# Altium footprint library USBCAN.PcbLib: 18 footprints (part 1 of 2)
Each footprint in its own frame and in the unit in brackets; x right, y up, seen from the top. Pads: shape width x height; smd on the part's side, far side on the other; paste and mask are expansions set on the pad; w line width, h text height; cw(c..) or ccw(c..) is an arc to the next point about the centre after c.
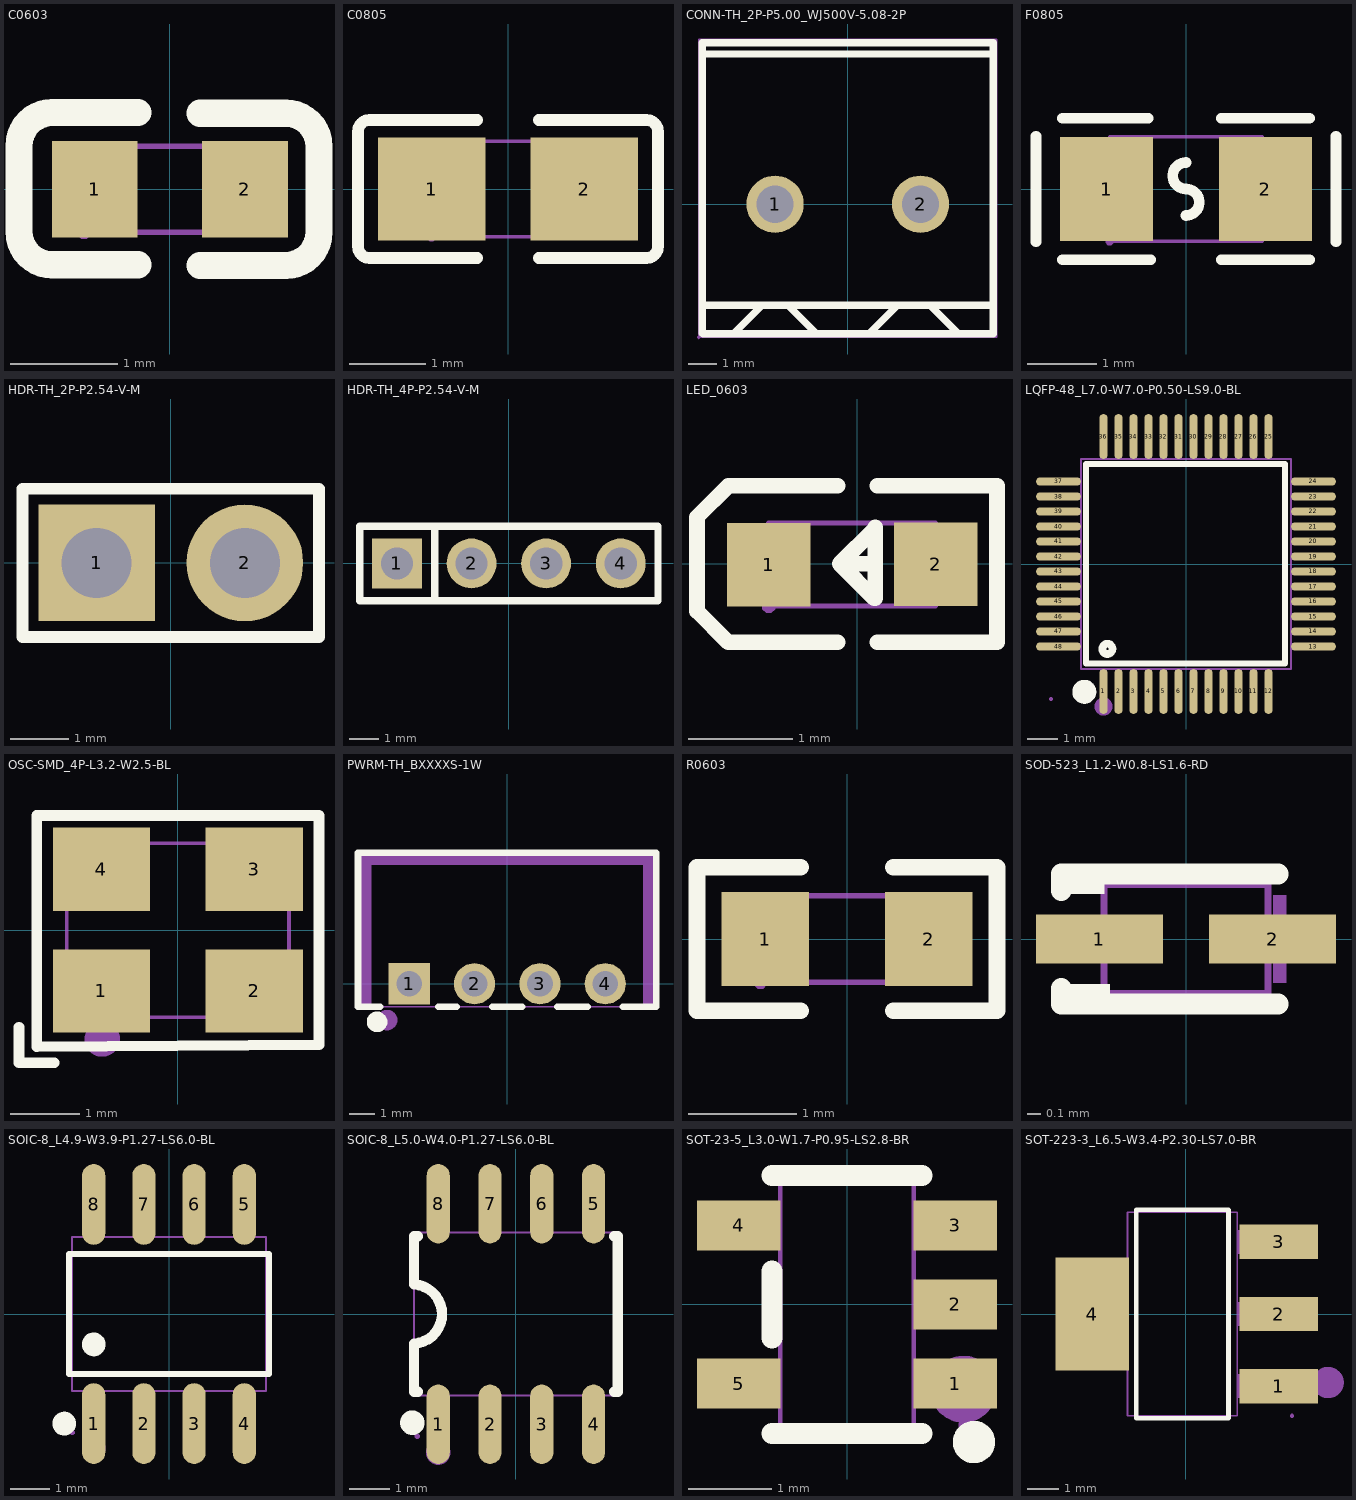
[diagram p0: the footprints below, top view; thin cyan lines are the x and y axes]

## C0603 [mm]
pads (2):
  rect 0.8x0.9 smd: 1(-0.7,0) 2(0.7,0)
Top Overlay:
  lines w0.254: -0.296,-0.704 -1.096,-0.704 cw(c-1.096,-0.394) -1.406,-0.394 -1.405,0.406 cw(c-1.096,0.406) -1.096,0.715 -0.296,0.715 ; 0.28,-0.71 1.08,-0.71 ccw(c1.08,-0.4) 1.39,-0.4 1.39,0.4 ccw(c1.08,0.4) 1.08,0.71 0.28,0.71
Mechanical 15:
  region: -0.8,-0.4 -0.8,0.4 -0.5,0.4 -0.5,-0.4
  region: 0.8,-0.4 0.8,0.4 0.5,0.4 0.5,-0.4
  region: -0.8,-0.46 -0.776,-0.46 -0.741,-0.425 -0.741,-0.376 -0.776,-0.341 -0.8,-0.34 -0.825,-0.341 -0.859,-0.376 -0.859,-0.425 -0.825,-0.46 -0.8,-0.46
  lines w0.051: -0.8,-0.4 -0.8,0.4 0.8,0.4 0.8,-0.4 -0.8,-0.4

## C0805 [mm]
pads (2):
  rect 1.41x1.35 smd paste-100 mask+0.051: 1(-1,0) 2(1,0)
Top Overlay:
  lines w0.152: -0.401,-0.904 -1.811,-0.904 cw(c-1.811,-0.751) -1.964,-0.751 -1.964,0.751 cw(c-1.811,0.751) -1.811,0.904 -0.401,0.904 ; 0.401,-0.904 1.811,-0.904 ccw(c1.811,-0.751) 1.964,-0.751 1.964,0.751 ccw(c1.811,0.751) 1.811,0.904 0.401,0.904
Top Paste:
  region: 0.475,-0.62 0.475,-0.2 0.92,-0.2 0.92,0.25 0.48,0.25 0.475,0.66 0.525,0.71 1.675,0.71 1.725,0.66 1.725,-0.62 1.675,-0.67 0.525,-0.67
  region: -1.675,-0.62 -1.675,0.66 -1.625,0.71 -0.475,0.71 -0.425,0.66 -0.42,0.25 -0.87,0.25 -0.87,-0.2 -0.43,-0.2 -0.425,-0.62 -0.475,-0.67 -1.625,-0.67
Mechanical 15:
  region: -1,-0.565 -1.024,-0.566 -1.059,-0.601 -1.059,-0.65 -1.024,-0.685 -1,-0.685 -0.976,-0.685 -0.941,-0.65 -0.941,-0.601 -0.976,-0.566 -1,-0.565
  region: 1,0.625 1,-0.625 0.5,-0.625 0.5,0.625
  region: -1,-0.625 -1,0.625 -0.5,0.625 -0.5,-0.625
  lines w0.051: -1,-0.625 1,-0.625 1,0.625 -1,0.625 -1,-0.625

## CONN-TH_2P-P5.00_WJ500V-5.08-2P [mm]
pads (2):
  round 2 hole 1.3: 1(-2.54,0) 2(2.54,0)
Top Overlay:
  lines w0.254: -5.08,-4.52 -5.08,5.64 ; -5.065,5.243 5.08,5.243 ; -5.054,-4.522 5.08,-4.522 5.08,5.638 -5.054,5.638 ; -5.036,-3.531 5.08,-3.531 ; -3.97,-4.5 -3.01,-3.54 ; -2.08,-3.54 -1.12,-4.5 ; 0.75,-4.518 1.71,-3.558 ; 2.9,-3.558 3.86,-4.518
Mechanical 15:
  region: -2.54,0.55 -2.649,0.55 -2.852,0.466 -3.006,0.312 -3.09,0.109 -3.09,-0.109 -3.006,-0.312 -2.852,-0.466 -2.65,-0.55 -2.54,-0.55 -2.431,-0.55 -2.228,-0.466 -2.074,-0.312 -1.99,-0.109 -1.99,0.109 -2.074,0.312 -2.228,0.466 -2.431,0.55 -2.54,0.55
  region: 2.54,0.55 2.431,0.55 2.228,0.466 2.074,0.312 1.99,0.109 1.99,-0.109 2.074,-0.312 2.228,-0.466 2.43,-0.55 2.54,-0.55 2.649,-0.55 2.852,-0.466 3.006,-0.312 3.09,-0.109 3.09,0.109 3.006,0.312 2.852,0.466 2.649,0.55 2.54,0.55
  region: -5.207,-4.59 -5.231,-4.59 -5.265,-4.625 -5.265,-4.673 -5.231,-4.708 -5.207,-4.709 -5.183,-4.708 -5.15,-4.674 -5.15,-4.625 -5.183,-4.591 -5.207,-4.59
  lines w0.051: -5.207,-4.649 -5.207,5.767 5.207,5.767 5.207,-4.649 -5.207,-4.649

## F0805 [mm]
pads (2):
  rect 1.335x1.5 smd paste-100 mask+0.051: 1(-1.142,0) 2(1.142,0)
Top Overlay:
  lines w0.152: -2.159,-0.762 -2.159,0.762 ; -1.778,-1.016 -0.508,-1.016 ; -1.778,1.016 -0.545,1.016 ; 0,-0.381 ccw(c0,-0.191) 0,0 cw(c0,0.191) 0,0.381 ; 0.508,-1.016 1.778,-1.016 ; 0.508,1.016 1.778,1.016 ; 2.159,-0.762 2.159,0.762
Top Paste:
  region: 0.475,-0.62 0.475,-0.2 0.92,-0.2 0.92,0.25 0.48,0.25 0.475,0.66 0.525,0.71 1.675,0.71 1.725,0.66 1.725,-0.62 1.675,-0.67 0.525,-0.67
  region: -1.675,-0.62 -1.675,0.66 -1.625,0.71 -0.475,0.71 -0.425,0.66 -0.42,0.25 -0.87,0.25 -0.87,-0.2 -0.43,-0.2 -0.425,-0.62 -0.475,-0.67 -1.625,-0.67
Mechanical 15:
  region: -1.1,-0.81 -1.076,-0.809 -1.043,-0.774 -1.043,-0.726 -1.076,-0.691 -1.1,-0.69 -1.124,-0.691 -1.158,-0.726 -1.158,-0.774 -1.124,-0.809 -1.1,-0.81
  region: 1.1,-0.75 0.9,-0.75 0.9,0.75 1.1,0.75
  region: -1.1,0.75 -0.9,0.75 -0.9,-0.75 -1.1,-0.75
  lines w0.051: -1.1,-0.75 1.1,-0.75 1.1,0.75 -1.1,0.75 -1.1,-0.75

## HDR-TH_2P-P2.54-V-M [mm]
pads (2):
  rect 2x2 hole 1.2: 1(-1.27,0)
  round 2 hole 1.2: 2(1.27,0)
Top Overlay:
  lines w0.203: -2.54,-1.27 -2.54,1.27 -0.635,1.27 2.54,1.27 2.54,-1.27 -2.54,-1.27
Mechanical 15:
  region: -1.59,0.32 -0.95,0.32 -0.95,-0.32 -1.59,-0.32
  region: 0.95,0.32 1.59,0.32 1.59,-0.32 0.95,-0.32
  region: -2.6,-1.25 -2.599,-1.274 -2.564,-1.308 -2.516,-1.308 -2.481,-1.274 -2.48,-1.25 -2.481,-1.226 -2.516,-1.192 -2.564,-1.192 -2.599,-1.226 -2.6,-1.25
  lines w0.051: -2.54,-1.25 2.54,-1.25 2.54,1.25 -2.54,1.25 -2.54,-1.25

## HDR-TH_4P-P2.54-V-M [mm]
pads (4):
  rect 1.7x1.7 hole 1.1: 1(-3.81,0)
  round 1.7 hole 1.1: 2(-1.27,0) 3(1.27,0) 4(3.81,0)
Top Overlay:
  lines w0.254: -2.516,-1.27 -2.516,1.27 ; -2.516,1.27 -5.08,1.27 -5.08,-1.27 5.08,-1.27 5.08,1.27 -2.516,1.27
Mechanical 15:
  region: 3.49,0.32 4.13,0.32 4.13,-0.32 3.49,-0.32
  region: 0.95,0.32 1.59,0.32 1.59,-0.32 0.95,-0.32
  region: -1.59,0.32 -0.95,0.32 -0.95,-0.32 -1.59,-0.32
  region: -4.13,0.32 -3.49,0.32 -3.49,-0.32 -4.13,-0.32
  region: -5.08,-1.31 -5.056,-1.309 -5.022,-1.274 -5.022,-1.226 -5.056,-1.191 -5.08,-1.19 -5.104,-1.191 -5.138,-1.226 -5.138,-1.274 -5.104,-1.309 -5.08,-1.31
  lines w0.051: -5.08,-1.25 5.08,-1.25 5.08,1.25 -5.08,1.25 -5.08,-1.25

## LED_0603 [mil]
pads (2):
  rect 31.5x31.5 smd paste+0 mask+2: 1(-33.5,-0.4) 2(29.5,-0.2)
Top Overlay:
  lines w5.9: -7.5,-29.7 -48.8,-29.7 -60.6,-17.9 -60.6,-13.9 -60.6,13.6 -60.6,17.6 -48.8,29.4 -7.5,29.4 ; 6.7,0 -6.7,0 ; 7.5,-29.6 52.7,-29.6 ; 7.5,29.5 52.7,29.5 52.7,-28.8 ; -6.7,0 6.7,13.3 6.7,13.7 6.7,-13 6.3,-13 -6.7,0
Mechanical 6:
  region: -44.1,2.1 -22.9,2.1 -22.9,-3 -44.1,-3
  region: 26.9,-10.8 26.9,10.4 32,10.4 32,-10.8
  region: 18.8,2.4 40.1,2.4 40.1,-2.7 18.8,-2.7
Mechanical 15:
  region: -33.5,-16.2 -33.5,15.3 -21.7,15.3 -21.7,-16.2
  region: 17.7,-15.9 17.7,15.6 29.5,15.6 29.5,-15.9
  region: -35.9,-16.2 -35.9,-17.19 -34.49,-18.6 -32.51,-18.6 -31.1,-17.19 -31.1,-16.2 -31.1,-15.21 -32.51,-13.8 -34.49,-13.8 -35.9,-15.21 -35.9,-16.2
  lines w2: -33.5,-16 29.5,-16 29.5,15.4 -33.5,15.4 -33.5,-16

## LQFP-48_L7.0-W7.0-P0.50-LS9.0-BL [mm]
pads (48):
  oval 0.27x1.5 smd paste+0 mask+0.05: 1(-2.75,-4.25) 2(-2.25,-4.25) 3(-1.75,-4.25) 4(-1.25,-4.25) 5(-0.75,-4.25) 6(-0.25,-4.25) 7(0.25,-4.25) 8(0.75,-4.25) 9(1.25,-4.25) 10(1.75,-4.25) 11(2.25,-4.25) 12(2.75,-4.25) 25(2.75,4.25) 26(2.25,4.25) 27(1.75,4.25) 28(1.25,4.25) 29(0.75,4.25) 30(0.25,4.25) 31(-0.25,4.25) 32(-0.75,4.25) 33(-1.25,4.25) 34(-1.75,4.25) 35(-2.25,4.25) 36(-2.75,4.25)
  oval 1.5x0.27 smd paste+0 mask+0.05: 13(4.25,-2.75) 14(4.25,-2.25) 15(4.25,-1.75) 16(4.25,-1.25) 17(4.25,-0.75) 18(4.25,-0.25) 19(4.25,0.25) 20(4.25,0.75) 21(4.25,1.25) 22(4.25,1.75) 23(4.25,2.25) 24(4.25,2.75) 37(-4.25,2.75) 38(-4.25,2.25) 39(-4.25,1.75) 40(-4.25,1.25) 41(-4.25,0.75) 42(-4.25,0.25) 43(-4.25,-0.25) 44(-4.25,-0.75) 45(-4.25,-1.25) 46(-4.25,-1.75) 47(-4.25,-2.25) 48(-4.25,-2.75)
Top Overlay:
  circle w0.254: c-2.62,-2.83 r0.17
  lines w0.2: -2.896,3.34 3.302,3.34 3.302,-3.315 -3.327,-3.315 -3.327,3.34 -2.565,3.34
  lines w0.4: -3.39,-4.06 ccw(c-3.389,-4.26) -3.387,-4.06
Mechanical 6:
  circle w0.3: c-2.75,-4.75 r0.15
Mechanical 15:
  drawing of 101 lines, arcs and shapes, not listed

## OSC-SMD_4P-L3.2-W2.5-BL [mm]
pads (4):
  rect 1.4x1.2 smd: 1(-1.1,-0.875) 2(1.1,-0.875) 3(1.1,0.875) 4(-1.1,0.875)
Top Overlay:
  lines w0.152: -2.286,-1.397 -2.286,-1.905 -1.778,-1.905 ; -2.029,-1.679 2.032,-1.651 2.032,0 2.032,1.651 -2.029,1.651 -2.029,-1.679
Mechanical 6:
  circle w0.254: c-1.088,-1.567 r0.127
  region: -1.738,-0.536 -1.702,-0.536 -1.702,-0.608 -1.738,-0.608
  region: -1.702,-0.536 -1.666,-0.536 -1.666,-0.608 -1.702,-0.608
  region: -1.666,-0.5 -1.63,-0.5 -1.63,-0.608 -1.666,-0.608
  region: -1.63,-0.464 -1.594,-0.464 -1.594,-0.572 -1.63,-0.572
  region: -1.594,-0.464 -1.558,-0.464 -1.558,-1.004 -1.594,-1.004
  region: -1.558,-0.428 -1.522,-0.428 -1.522,-1.004 -1.558,-1.004
  region: -1.522,-0.428 -1.486,-0.428 -1.486,-1.004 -1.522,-1.004
  region: -1.486,-0.428 -1.45,-0.428 -1.45,-1.004 -1.486,-1.004
Mechanical 15:
  region: 0.6,-0.449 1.5,-0.449 1.5,-1.249 0.6,-1.249
  region: -1.5,-0.449 -0.6,-0.449 -0.6,-1.249 -1.5,-1.249
  region: -1.5,1.249 -0.6,1.249 -0.6,0.449 -1.5,0.449
  region: 0.6,1.249 1.5,1.249 1.5,0.449 0.6,0.449
  region: -1.54,-1.25 -1.54,-1.225 -1.575,-1.191 -1.624,-1.191 -1.659,-1.225 -1.66,-1.25 -1.659,-1.274 -1.624,-1.309 -1.575,-1.309 -1.54,-1.274 -1.54,-1.25
  lines w0.051: -1.6,-1.25 1.6,-1.25 1.6,1.25 -1.6,1.25 -1.6,-1.25

## PWRM-TH_BXXXXS-1W [mm]
pads (4):
  rect 1.6x1.6 hole 1: 1(-3.81,0)
  round 1.6 hole 1: 2(-1.27,0) 3(1.27,0) 4(3.81,0)
Top Overlay:
  circle w0.4: c-5.06,-1.48 r0.2
  lines w0.254: -4.941,-0.9 -5.8,-0.9 -5.8,5.1 5.8,5.1 5.8,-0.9 4.713,-0.9 ; -2.679,-0.9 -1.954,-0.9 ; -0.587,-0.9 0.586,-0.9 ; -0.367,-0.9 0.367,-0.9 ; 1.953,-0.9 3.126,-0.9 ; 2.173,-0.9 2.907,-0.9 ; 4.493,-0.9 5.116,-0.9
Mechanical 6:
  circle w0.4: c-4.67,-1.41 r0.2
  region: -5.69,-0.77 -5.69,4.98 5.67,4.98 5.67,-0.77 5.29,-0.77 5.29,4.63 -5.28,4.63 -5.29,4.62 -5.29,-0.77
Mechanical 15:
  region: 5.8,5.04 5.825,5.04 5.86,5.075 5.86,5.125 5.825,5.16 5.8,5.16 5.775,5.16 5.74,5.125 5.74,5.075 5.775,5.04 5.8,5.04
  region: 3.56,0.15 4.06,0.15 4.06,-0.15 3.56,-0.15
  region: 1.02,0.15 1.52,0.15 1.52,-0.15 1.02,-0.15
  region: -1.52,0.15 -1.02,0.15 -1.02,-0.15 -1.52,-0.15
  region: -4.06,0.15 -3.56,0.15 -3.56,-0.15 -4.06,-0.15
  lines w0.051: -5.8,-0.9 -5.8,5.1 5.8,5.1 5.8,-0.9 -5.8,-0.9

## R0603 [mm]
pads (2):
  rect 0.806x0.864 smd paste-100 mask+0.051: 1(-0.753,0) 2(0.753,0)
Top Overlay:
  lines w0.152: -0.426,-0.661 -1.385,-0.661 -1.385,0.661 -0.426,0.661 ; 0.426,-0.661 1.385,-0.661 1.385,0.661 0.426,0.661
Top Paste:
  region: -0.355,0.4 -0.355,0.172 -0.735,0.172 -0.735,-0.158 -0.355,-0.158 -0.355,-0.4 -0.405,-0.45 -1.195,-0.45 -1.245,-0.4 -1.245,0.4 -1.195,0.45 -0.405,0.45
  region: 1.195,0.45 0.395,0.45 0.345,0.4 0.345,0.172 0.715,0.172 0.715,-0.158 0.345,-0.158 0.345,-0.4 0.395,-0.45 1.195,-0.45 1.245,-0.4 1.245,0.4
Mechanical 15:
  region: -0.74,-0.4 -0.741,-0.376 -0.776,-0.341 -0.825,-0.341 -0.86,-0.376 -0.86,-0.4 -0.86,-0.425 -0.825,-0.459 -0.776,-0.459 -0.741,-0.425 -0.74,-0.4
  region: 0.8,-0.4 0.8,0.4 0.5,0.4 0.5,-0.4
  region: -0.8,-0.4 -0.8,0.4 -0.5,0.4 -0.5,-0.4
  lines w0.051: -0.8,-0.4 0.8,-0.4 0.8,0.4 -0.8,0.4 -0.8,-0.4

## SOD-523_L1.2-W0.8-LS1.6-RD [mm]
pads (2):
  rect 0.93x0.36 smd: 1(-0.635,0) 2(0.635,0)
Top Overlay:
  region: -0.56,-0.552 -0.56,-0.332 -0.864,-0.332 -0.864,-0.552
  region: -0.6,0.552 -0.6,0.332 -0.905,0.332 -0.905,0.552
  lines w0.152: -0.914,-0.363 -0.914,-0.476 -0.676,-0.476 0.676,-0.476 ; -0.914,0.356 -0.914,0.476 -0.676,0.476 0.676,0.476
Mechanical 6:
  region: 0.736,0.32 0.736,-0.32 0.64,-0.32 0.64,0.32
  region: 0.88,0.048 0.88,-0.048 0.496,-0.048 0.496,0.048
  region: -0.887,0.055 -0.887,-0.041 -0.503,-0.041 -0.503,0.055
Mechanical 15:
  region: 0.8,-0.15 0.8,0.15 0.2,0.15 0.2,-0.15
  region: -0.8,-0.15 -0.8,0.15 -0.2,0.15 -0.2,-0.15
  region: -0.8,-0.46 -0.776,-0.459 -0.743,-0.424 -0.743,-0.376 -0.776,-0.341 -0.8,-0.34 -0.824,-0.341 -0.858,-0.376 -0.858,-0.424 -0.824,-0.459 -0.8,-0.46
  lines w0.051: -0.6,-0.4 0.6,-0.4 0.6,0.4 -0.6,0.4 -0.6,-0.4

## SOIC-8_L4.9-W3.9-P1.27-LS6.0-BL [mm]
pads (8):
  oval 0.588x2.045 smd: 1(-1.905,-2.772) 2(-0.635,-2.772) 3(0.635,-2.772) 4(1.905,-2.772) 5(1.905,2.772) 6(0.635,2.772) 7(-0.635,2.772) 8(-1.905,2.772)
Top Overlay:
  circle w0.3: c-2.652,-2.772 r0.15
  circle w0.3: c-1.905,-0.769 r0.15
  lines w0.152: -2.526,-1.521 2.526,-1.521 2.526,1.521 -2.526,1.521 -2.526,-1.521
Mechanical 6:
  circle w0.3: c-1.905,-3.4 r0.15
Mechanical 15:
  region: 1.695,2.175 1.695,1.94 2.115,1.94 2.115,2.175
  region: 1.695,3 1.695,2.165 2.115,2.165 2.115,3
  region: 0.425,2.175 0.425,1.94 0.845,1.94 0.845,2.175
  region: 0.425,3 0.425,2.165 0.845,2.165 0.845,3
  region: -0.845,2.175 -0.845,1.94 -0.425,1.94 -0.425,2.175
  region: -0.845,3 -0.845,2.165 -0.425,2.165 -0.425,3
  region: -2.115,2.175 -2.115,1.94 -1.695,1.94 -1.695,2.175
  region: -2.115,3 -2.115,2.165 -1.695,2.165 -1.695,3
  region: 1.695,-2.175 1.695,-1.94 2.115,-1.94 2.115,-2.175
  region: 1.695,-3 1.695,-2.165 2.115,-2.165 2.115,-3
  region: 0.425,-2.175 0.425,-1.94 0.845,-1.94 0.845,-2.175
  region: 0.425,-3 0.425,-2.165 0.845,-2.165 0.845,-3
  region: -0.845,-2.175 -0.845,-1.94 -0.425,-1.94 -0.425,-2.175
  region: -0.845,-3 -0.845,-2.165 -0.425,-2.165 -0.425,-3
  region: -2.115,-2.175 -2.115,-1.94 -1.695,-1.94 -1.695,-2.175
  region: -2.115,-3 -2.115,-2.165 -1.695,-2.165 -1.695,-3
  region: -2.51,-3 -2.51,-3.024 -2.475,-3.059 -2.426,-3.059 -2.391,-3.024 -2.39,-3 -2.391,-2.976 -2.426,-2.941 -2.475,-2.941 -2.51,-2.976 -2.51,-3
  lines w0.051: -2.45,-1.95 2.45,-1.95 2.45,1.95 -2.45,1.95 -2.45,-1.95

## SOIC-8_L5.0-W4.0-P1.27-LS6.0-BL [mil]
pads (8):
  oval 22.38x76.78 smd: 1(-75,-106.5) 2(-25,-106.5) 3(25,-106.5) 4(75,-106.5) 5(75,106.5) 6(25,106.5) 7(-25,106.5) 8(-75,106.5)
Top Overlay:
  circle w11.81: c-100,-105 r5.91
  lines w10: -98.43,-28.61 ccw(c-99.99,0) -98.23,28.59 ; -98.42,-28.61 -98.42,-59.05 -98.42,-75 -94.83,-75 ; -98.42,28.59 -98.42,59.05 -98.42,75 -94.83,75 ; 94.83,-75 98.42,-75 98.42,-59.05 98.42,59.05 98.42,75 94.83,75
Mechanical 6:
  circle w11.81: c-75,-133.86 r5.91
Mechanical 15:
  region: -83.07,-118.11 -83.07,-85.24 -66.93,-85.24 -66.93,-118.11
  region: -83.07,-85.63 -83.07,-76.38 -66.93,-76.38 -66.93,-85.63
  region: -33.07,-118.11 -33.07,-85.24 -16.93,-85.24 -16.93,-118.11
  region: -33.07,-85.63 -33.07,-76.38 -16.93,-76.38 -16.93,-85.63
  region: 16.93,-118.11 16.93,-85.24 33.07,-85.24 33.07,-118.11
  region: 16.93,-85.63 16.93,-76.38 33.07,-76.38 33.07,-85.63
  region: 66.93,-118.11 66.93,-85.24 83.07,-85.24 83.07,-118.11
  region: 66.93,-85.63 66.93,-76.38 83.07,-76.38 83.07,-85.63
  region: -83.07,85.24 -83.07,118.11 -66.93,118.11 -66.93,85.24
  region: -83.07,76.38 -83.07,85.63 -66.93,85.63 -66.93,76.38
  region: -33.07,85.24 -33.07,118.11 -16.93,118.11 -16.93,85.24
  region: -33.07,76.38 -33.07,85.63 -16.93,85.63 -16.93,76.38
  region: 16.93,85.24 16.93,118.11 33.07,118.11 33.07,85.24
  region: 16.93,76.38 16.93,85.63 33.07,85.63 33.07,76.38
  region: 66.93,85.24 66.93,118.11 83.07,118.11 83.07,85.24
  region: 66.93,76.38 66.93,85.63 83.07,85.63 83.07,76.38
  region: -95.28,-115.75 -96.24,-115.77 -97.59,-117.15 -97.59,-119.07 -96.24,-120.45 -95.28,-120.47 -94.32,-120.45 -92.97,-119.07 -92.97,-117.15 -94.32,-115.77 -95.28,-115.75
  lines w2: -98.42,-78.74 98.42,-78.74 98.42,78.74 -98.42,78.74 -98.42,-78.74

## SOT-23-5_L3.0-W1.7-P0.95-LS2.8-BR [mm]
pads (5):
  rect 1x0.6 smd: 1(1.3,-0.95) 2(1.3,0) 3(1.3,0.95) 4(-1.3,0.95) 5(-1.3,-0.95)
Top Overlay:
  circle w0.254: c1.524,-1.651 r0.127
  lines w0.254: -0.9,-1.55 0.9,-1.55 ; -0.9,-0.4 -0.9,0.4 ; -0.9,1.55 0.9,1.55
Mechanical 6:
  circle w0.4: c1.397,-1.016 r0.2
Mechanical 15:
  region: -1.4,-1.15 -1.4,-0.75 -0.95,-0.75 -0.95,-1.15
  region: -0.96,-1.15 -0.96,-0.75 -0.79,-0.75 -0.79,-1.15
  region: -1.4,0.75 -1.4,1.15 -0.95,1.15 -0.95,0.75
  region: -0.96,0.75 -0.96,1.15 -0.79,1.15 -0.79,0.75
  region: 0.95,0.75 0.95,1.15 1.4,1.15 1.4,0.75
  region: 0.79,0.75 0.79,1.15 0.96,1.15 0.96,0.75
  region: 0.95,-0.2 0.95,0.2 1.4,0.2 1.4,-0.2
  region: 0.79,-0.2 0.79,0.2 0.96,0.2 0.96,-0.2
  region: 0.95,-1.15 0.95,-0.75 1.4,-0.75 1.4,-1.15
  region: 0.79,-1.15 0.79,-0.75 0.96,-0.75 0.96,-1.15
  region: 1.34,-1.45 1.34,-1.475 1.375,-1.51 1.425,-1.51 1.46,-1.475 1.46,-1.45 1.46,-1.425 1.425,-1.39 1.375,-1.39 1.34,-1.425 1.34,-1.45
  lines w0.051: -0.8,-1.45 -0.8,1.45 0.8,1.45 0.8,-1.45 -0.8,-1.45

## SOT-223-3_L6.5-W3.4-P2.30-LS7.0-BR [mm]
pads (4):
  rect 2.5x1.1 smd: 1(2.97,-2.3) 2(2.97,0) 3(2.97,2.3)
  rect 2.34x3.6 smd: 4(-2.97,0)
Top Overlay:
  lines w0.152: -1.571,-3.326 1.371,-3.326 1.371,3.326 -1.571,3.326 -1.571,-3.326
Mechanical 6:
  circle w0.5: c4.552,-2.188 r0.25
Mechanical 15:
  region: -3.6,-1.5 -3.6,1.5 -2.85,1.5 -2.85,-1.5
  region: -2.86,-1.5 -2.86,1.5 -1.84,1.5 -1.84,-1.5
  region: 2.65,-2.675 2.65,-1.925 3.4,-1.925 3.4,-2.675
  region: 1.64,-2.675 1.64,-1.925 2.66,-1.925 2.66,-2.675
  region: 2.65,-0.375 2.65,0.375 3.4,0.375 3.4,-0.375
  region: 1.64,-0.375 1.64,0.375 2.66,0.375 2.66,-0.375
  region: 2.65,1.925 2.65,2.675 3.4,2.675 3.4,1.925
  region: 1.64,1.925 1.64,2.675 2.66,2.675 2.66,1.925
  region: 3.46,-3.25 3.46,-3.225 3.425,-3.19 3.375,-3.19 3.34,-3.225 3.34,-3.25 3.34,-3.275 3.375,-3.31 3.425,-3.31 3.46,-3.275 3.46,-3.25
  lines w0.051: -1.85,-3.25 1.65,-3.25 1.65,3.25 -1.85,3.25 -1.85,-3.25